# Altium schematic symbol library PCA9306DCUT.SchLib: 1 symbol
Pins are listed as number, name and electrical type; pins without a type are passive.

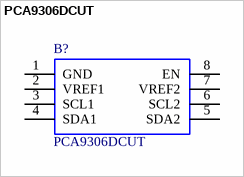
[diagram p0: symbol PCA9306DCUT]

## PCA9306DCUT
designator B?
2-Bit Bidirectional I2C Bus and SMBus Voltage-Level Shifter; Manufacturer_Name: Texas Instruments; Geometry.Height: mm; Supplier_Name: RS; RS Part Number: 6627421P; Manufacturer_Part_Number: PCA9306DCUT; Allied_Number: *; Other Part Number: *; Datasheet Link: http://www.ti.com/lit/gpn/pca9306; 3D Package: *
footprint SOP50P310X90-8N
pins: 1 GND, 2 VREF1, 3 SCL1, 4 SDA1, 5 SDA2, 6 SCL2, 7 VREF2, 8 EN